# EAGLE library part RESISTOR_NET_ISO_8 (library custom)
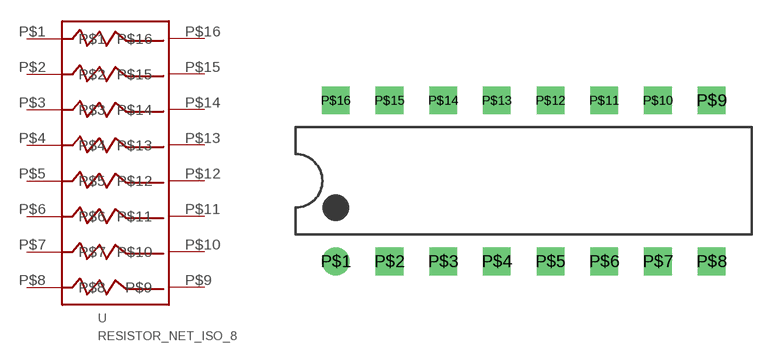
[diagram p43: symbol with the pads of DIP16_300; footprint DIP16_300]

Designator prefix -

## RESISTOR_NET_ISO_8  [DIP16_300]
P$1  P$1
P$2  P$2
P$3  P$3
P$4  P$4
P$5  P$5
P$6  P$6
P$7  P$7
P$8  P$8
P$9  P$9
P$10  P$10
P$11  P$11
P$12  P$12
P$13  P$13
P$14  P$14
P$15  P$15
P$16  P$16

## Footprint DIP16_300 (pad centres in mm)
drill 0.8 round: P$1 -8.89,-3.81
drill 0.8 square: P$2 -6.35,-3.81; P$3 -3.81,-3.81; P$4 -1.27,-3.81; P$5 1.27,-3.81; P$6 3.81,-3.81; P$7 6.35,-3.81; P$8 8.89,-3.81; P$9 8.89,3.81; P$10 6.35,3.81; P$11 3.81,3.81; P$12 1.27,3.81; P$13 -1.27,3.81; P$14 -3.81,3.81; P$15 -6.35,3.81; P$16 -8.89,3.81